# Altium schematic symbol library WCAP-FTDB.SchLib: 24 symbols
Pins are listed as number, name and electrical type; pins without a type are passive.

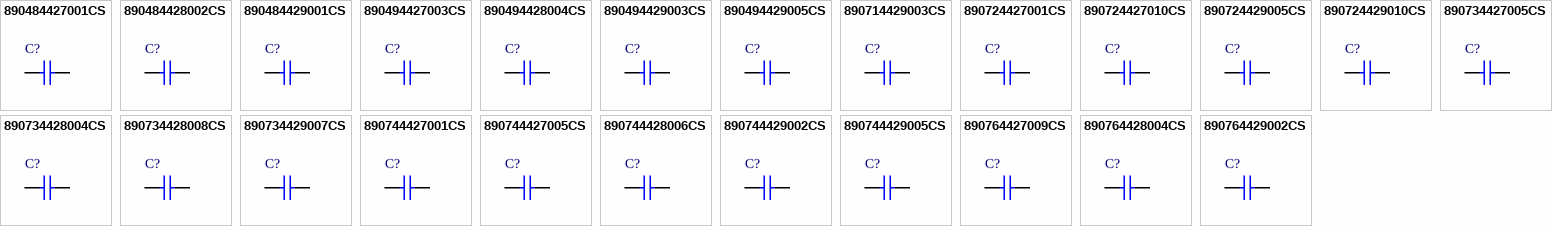
[diagram p0: symbols 890484427001CS to 890764429002CS]

## 890484427001CS
designator C?, comment 5µF  (value not drawn)
WCAP-FTDB DC-Link Capacitor, THT, 32mm x 11mm x 20mm, 5µF, 500V; Manufacturer Part Number: 890484427001CS; Manufacturer: Wurth Elektronik; Insulation Resistance: 2GΩ; Rated Voltage: 500V (DC); Dissipation Factor @1kHz: 0.1%; Rate of Voltage Rise: 65V/µs; Ripple Current: 5A; Category: Film Capacitors; Match Code: WCAP-FTDB; ComponentLink1Description: Website Link; ComponentLink1URL: https://www.we-online.com/redexpert/article/890484427001CS?ad; ComponentLink2Description: Datasheet Link; ComponentLink2URL: https://www.we-online.com/redexpert/spec/890484427001CS?ad; Mount: Through Hole; Min Operating Temperature: -40°C; Max Operating Temperature: 105°C; Packaging: Carton; Length: 32mm; Width: 11mm; Height: 20mm; Capacitance: 5µF
footprint WCAP-FTDB_L32W11H20
simulation model 890484427001CS_5uF
pins: 1, 2

## 890484428002CS
designator C?, comment 35µF  (value not drawn)
WCAP-FTDB DC-Link Capacitor, THT, 42mm x 24mm x 36mm, 35µF, 500V; Manufacturer Part Number: 890484428002CS; Manufacturer: Wurth Elektronik; Insulation Resistance: 285.71MΩ; Rated Voltage: 500V (DC); Dissipation Factor @1kHz: 0.15%; Rate of Voltage Rise: 30V/µs; Ripple Current: 13.5A; Category: Film Capacitors; Match Code: WCAP-FTDB; ComponentLink1Description: Website Link; ComponentLink1URL: https://www.we-online.com/redexpert/article/890484428002CS?ad; ComponentLink2Description: Datasheet Link; ComponentLink2URL: https://www.we-online.com/redexpert/spec/890484428002CS?ad; Mount: Through Hole; Min Operating Temperature: -40°C; Max Operating Temperature: 105°C; Packaging: Carton; Length: 42mm; Width: 24mm; Height: 36mm; Capacitance: 35µF
footprint WCAP-FTDB_L42W24H36
simulation model 890484428002CS_35uF
pins: 1, 2

## 890484429001CS
designator C?, comment 75µF  (value not drawn)
WCAP-FTDB DC-Link Capacitor, THT, 57mm x 29.5mm x 43.5mm, 75µF, 500V; Manufacturer Part Number: 890484429001CS; Manufacturer: Wurth Elektronik; Insulation Resistance: 133.33MΩ; Rated Voltage: 500V (DC); Dissipation Factor @1kHz: 0.35%; Rate of Voltage Rise: 15V/µs; Ripple Current: 16A; Category: Film Capacitors; Match Code: WCAP-FTDB; ComponentLink1Description: Website Link; ComponentLink1URL: https://www.we-online.com/redexpert/article/890484429001CS?ad; ComponentLink2Description: Datasheet Link; ComponentLink2URL: https://www.we-online.com/redexpert/spec/890484429001CS?ad; Mount: Through Hole; Min Operating Temperature: -40°C; Max Operating Temperature: 105°C; Packaging: Carton; Length: 57mm; Width: 29.5mm; Height: 43.5mm; Capacitance: 75µF
footprint WCAP-FTDB_L57W29.5H43.5
simulation model 890484429001CS_75uF
pins: 1, 2

## 890494427003CS
designator C?, comment 3µF  (value not drawn)
WCAP-FTDB DC-Link Capacitor, THT, 32mm x 15mm x 24.5mm, 3µF, 1000V; Manufacturer Part Number: 890494427003CS; Manufacturer: Wurth Elektronik; Insulation Resistance: 3.33GΩ; Rated Voltage: 1000V (DC); Dissipation Factor @1kHz: 0.08%; Rate of Voltage Rise: 75V/µs; Ripple Current: 5.2A; Category: Film Capacitors; Match Code: WCAP-FTDB; ComponentLink1Description: Website Link; ComponentLink1URL: https://www.we-online.com/redexpert/article/890494427003CS?ad; ComponentLink2Description: Datasheet Link; ComponentLink2URL: https://www.we-online.com/redexpert/spec/890494427003CS?ad; Mount: Through Hole; Min Operating Temperature: -40°C; Max Operating Temperature: 105°C; Packaging: Carton; Length: 32mm; Width: 15mm; Height: 24.5mm; Capacitance: 3µF
footprint WCAP-FTDB_L32W15H24.5
simulation model 890494427003CS_3uF
pins: 1, 2

## 890494428004CS
designator C?, comment 25µF  (value not drawn)
WCAP-FTDB DC-Link Capacitor, THT, 42mm x 35mm x 50mm, 25µF, 1000V; Manufacturer Part Number: 890494428004CS; Manufacturer: Wurth Elektronik; Insulation Resistance: 400MΩ; Rated Voltage: 1000V (DC); Dissipation Factor @1kHz: 0.15%; Rate of Voltage Rise: 37V/µs; Ripple Current: 19.2A; Category: Film Capacitors; Match Code: WCAP-FTDB; ComponentLink1Description: Website Link; ComponentLink1URL: https://www.we-online.com/redexpert/article/890494428004CS?ad; ComponentLink2Description: Datasheet Link; ComponentLink2URL: https://www.we-online.com/redexpert/spec/890494428004CS?ad; Mount: Through Hole; Min Operating Temperature: -40°C; Max Operating Temperature: 105°C; Packaging: Carton; Length: 42mm; Width: 35mm; Height: 50mm; Capacitance: 25µF
footprint WCAP-FTDB_L42W35H50
simulation model 890494428004CS_25uF
pins: 1, 2

## 890494429003CS
designator C?, comment 40µF  (value not drawn)
WCAP-FTDB DC-Link Capacitor, THT, 57mm x 35mm x 50mm, 40µF, 1000V; Manufacturer Part Number: 890494429003CS; Manufacturer: Wurth Elektronik; Insulation Resistance: 250MΩ; Rated Voltage: 1000V (DC); Dissipation Factor @1kHz: 0.28%; Rate of Voltage Rise: 17V/µs; Ripple Current: 15.4A; Category: Film Capacitors; Match Code: WCAP-FTDB; ComponentLink1Description: Website Link; ComponentLink1URL: https://www.we-online.com/redexpert/article/890494429003CS?ad; ComponentLink2Description: Datasheet Link; ComponentLink2URL: https://www.we-online.com/redexpert/spec/890494429003CS?ad; Mount: Through Hole; Min Operating Temperature: -40°C; Max Operating Temperature: 105°C; Packaging: Carton; Length: 57mm; Width: 35mm; Height: 50mm; Capacitance: 40µF
footprint WCAP-FTDB_L57W35H50
simulation model 890494429003CS_40uF
pins: 1, 2

## 890494429005CS
designator C?, comment 50µF  (value not drawn)
WCAP-FTDB DC-Link Capacitor, THT, 57mm x 45mm x 55mm, 50µF, 1000V; Manufacturer Part Number: 890494429005CS; Manufacturer: Wurth Elektronik; Insulation Resistance: 200MΩ; Rated Voltage: 1000V (DC); Dissipation Factor @1kHz: 0.28%; Rate of Voltage Rise: 17V/µs; Ripple Current: 19.2A; Category: Film Capacitors; Match Code: WCAP-FTDB; ComponentLink1Description: Website Link; ComponentLink1URL: https://www.we-online.com/redexpert/article/890494429005CS?ad; ComponentLink2Description: Datasheet Link; ComponentLink2URL: https://www.we-online.com/redexpert/spec/890494429005CS?ad; Mount: Through Hole; Min Operating Temperature: -40°C; Max Operating Temperature: 105°C; Packaging: Carton; Length: 57mm; Width: 45mm; Height: 55mm; Capacitance: 50µF
footprint WCAP-FTDB_L57W45H55
simulation model 890494429005CS_50uF
pins: 1, 2

## 890714429003CS
designator C?, comment 50µF  (value not drawn)
WCAP-FTDB DC-Link Capacitor, THT, 57mm x 35mm x 50mm, 50µF, 800V; Manufacturer Part Number: 890714429003CS; Manufacturer: Wurth Elektronik; Insulation Resistance: 200MΩ; Rated Voltage: 800V (DC); Dissipation Factor @1kHz: 0.33%; Rate of Voltage Rise: 15V/µs; Ripple Current: 16.8A; Category: Film Capacitors; Match Code: WCAP-FTDB; ComponentLink1Description: Website Link; ComponentLink1URL: https://www.we-online.com/redexpert/article/890714429003CS?ad; ComponentLink2Description: Datasheet Link; ComponentLink2URL: https://www.we-online.com/redexpert/spec/890714429003CS?ad; Mount: Through Hole; Min Operating Temperature: -40°C; Max Operating Temperature: 105°C; Packaging: Carton; Length: 57mm; Width: 35mm; Height: 50mm; Capacitance: 50µF
footprint WCAP-FTDB_L57W35H50
simulation model 890714429003CS_50uF
pins: 1, 2

## 890724427001CS
designator C?, comment 1µF  (value not drawn)
WCAP-FTDB DC-Link Capacitor, THT, 32mm x 9mm x 18mm, 1µF, 900V; Manufacturer Part Number: 890724427001CS; Manufacturer: Wurth Elektronik; Insulation Resistance: 10GΩ; Rated Voltage: 900V (DC); Dissipation Factor @1kHz: 0.09%; Rate of Voltage Rise: 70V/µs; Ripple Current: 1.5A; Category: Film Capacitors; Match Code: WCAP-FTDB; ComponentLink1Description: Website Link; ComponentLink1URL: https://www.we-online.com/redexpert/article/890724427001CS?ad; ComponentLink2Description: Datasheet Link; ComponentLink2URL: https://www.we-online.com/redexpert/spec/890724427001CS?ad; Mount: Through Hole; Min Operating Temperature: -40°C; Max Operating Temperature: 105°C; Packaging: Carton; Length: 32mm; Width: 9mm; Height: 18mm; Capacitance: 1µF
footprint WCAP-FTDB_L32W9H18
simulation model 890724427001CS_1uF
pins: 1, 2

## 890724427010CS
designator C?, comment 10µF  (value not drawn)
WCAP-FTDB DC-Link Capacitor, THT, 32mm x 22mm x 37mm, 10µF, 900V; Manufacturer Part Number: 890724427010CS; Manufacturer: Wurth Elektronik; Insulation Resistance: 1GΩ; Rated Voltage: 900V (DC); Dissipation Factor @1kHz: 0.09%; Rate of Voltage Rise: 70V/µs; Ripple Current: 12.2A; Category: Film Capacitors; Match Code: WCAP-FTDB; ComponentLink1Description: Website Link; ComponentLink1URL: https://www.we-online.com/redexpert/article/890724427010CS?ad; ComponentLink2Description: Datasheet Link; ComponentLink2URL: https://www.we-online.com/redexpert/spec/890724427010CS?ad; Mount: Through Hole; Min Operating Temperature: -40°C; Max Operating Temperature: 105°C; Packaging: Carton; Length: 32mm; Width: 22mm; Height: 37mm; Capacitance: 10µF
footprint WCAP-FTDB_L32W22H37
simulation model 890724427010CS_10uF
pins: 1, 2

## 890724429005CS
designator C?, comment 50µF  (value not drawn)
WCAP-FTDB DC-Link Capacitor, THT, 57mm x 35mm x 50mm, 50µF, 900V; Manufacturer Part Number: 890724429005CS; Manufacturer: Wurth Elektronik; Insulation Resistance: 200MΩ; Rated Voltage: 900V (DC); Dissipation Factor @1kHz: 0.31%; Rate of Voltage Rise: 15V/µs; Ripple Current: 17.9A; Category: Film Capacitors; Match Code: WCAP-FTDB; ComponentLink1Description: Website Link; ComponentLink1URL: https://www.we-online.com/redexpert/article/890724429005CS?ad; ComponentLink2Description: Datasheet Link; ComponentLink2URL: https://www.we-online.com/redexpert/spec/890724429005CS?ad; Mount: Through Hole; Min Operating Temperature: -40°C; Max Operating Temperature: 105°C; Packaging: Carton; Length: 57mm; Width: 35mm; Height: 50mm; Capacitance: 50µF
footprint WCAP-FTDB_L57W35H50
simulation model 890724429005CS_50uF
pins: 1, 2

## 890724429010CS
designator C?, comment 75µF  (value not drawn)
WCAP-FTDB DC-Link Capacitor, THT, 57mm x 45mm x 65mm, 75µF, 900V; Manufacturer Part Number: 890724429010CS; Manufacturer: Wurth Elektronik; Insulation Resistance: 133.33MΩ; Rated Voltage: 900V (DC); Dissipation Factor @1kHz: 0.31%; Rate of Voltage Rise: 15V/µs; Ripple Current: 25.7A; Category: Film Capacitors; Match Code: WCAP-FTDB; ComponentLink1Description: Website Link; ComponentLink1URL: https://www.we-online.com/redexpert/article/890724429010CS?ad; ComponentLink2Description: Datasheet Link; ComponentLink2URL: https://www.we-online.com/redexpert/spec/890724429010CS?ad; Mount: Through Hole; Min Operating Temperature: -40°C; Max Operating Temperature: 105°C; Packaging: Carton; Length: 57mm; Width: 45mm; Height: 65mm; Capacitance: 75µF
footprint WCAP-FTDB_L57W45H65
simulation model 890724429010CS_75uF
pins: 1, 2

## 890734427005CS
designator C?, comment 3µF  (value not drawn)
WCAP-FTDB DC-Link Capacitor, THT, 32mm x 16mm x 30mm, 3µF, 1100V; Manufacturer Part Number: 890734427005CS; Manufacturer: Wurth Elektronik; Insulation Resistance: 3.33GΩ; Rated Voltage: 1100V (DC); Dissipation Factor @1kHz: 0.08%; Rate of Voltage Rise: 80V/µs; Ripple Current: 6.5A; Category: Film Capacitors; Match Code: WCAP-FTDB; ComponentLink1Description: Website Link; ComponentLink1URL: https://www.we-online.com/redexpert/article/890734427005CS?ad; ComponentLink2Description: Datasheet Link; ComponentLink2URL: https://www.we-online.com/redexpert/spec/890734427005CS?ad; Mount: Through Hole; Min Operating Temperature: -40°C; Max Operating Temperature: 105°C; Packaging: Carton; Length: 32mm; Width: 16mm; Height: 30mm; Capacitance: 3µF
footprint WCAP-FTDB_L32W16H30
simulation model 890734427005CS_3uF
pins: 1, 2

## 890734428004CS
designator C?, comment 15µF  (value not drawn)
WCAP-FTDB DC-Link Capacitor, THT, 42mm x 30mm x 45mm, 15µF, 1100V; Manufacturer Part Number: 890734428004CS; Manufacturer: Wurth Elektronik; Insulation Resistance: 666.66MΩ; Rated Voltage: 1100V (DC); Dissipation Factor @1kHz: 0.15%; Rate of Voltage Rise: 40V/µs; Ripple Current: 12.4A; Category: Film Capacitors; Match Code: WCAP-FTDB; ComponentLink1Description: Website Link; ComponentLink1URL: https://www.we-online.com/redexpert/article/890734428004CS?ad; ComponentLink2Description: Datasheet Link; ComponentLink2URL: https://www.we-online.com/redexpert/spec/890734428004CS?ad; Mount: Through Hole; Min Operating Temperature: -40°C; Max Operating Temperature: 105°C; Packaging: Carton; Length: 42mm; Width: 30mm; Height: 45mm; Capacitance: 15µF
footprint WCAP-FTDB_L42W30H45
simulation model 890734428004CS_15uF
pins: 1, 2

## 890734428008CS
designator C?, comment 30µF  (value not drawn)
WCAP-FTDB DC-Link Capacitor, THT, 42mm x 45mm x 60mm, 30µF, 1100V; Manufacturer Part Number: 890734428008CS; Manufacturer: Wurth Elektronik; Insulation Resistance: 333.33MΩ; Rated Voltage: 1100V (DC); Dissipation Factor @1kHz: 0.15%; Rate of Voltage Rise: 40V/µs; Ripple Current: 24.8A; Category: Film Capacitors; Match Code: WCAP-FTDB; ComponentLink1Description: Website Link; ComponentLink1URL: https://www.we-online.com/redexpert/article/890734428008CS?ad; ComponentLink2Description: Datasheet Link; ComponentLink2URL: https://www.we-online.com/redexpert/spec/890734428008CS?ad; Mount: Through Hole; Min Operating Temperature: -40°C; Max Operating Temperature: 105°C; Packaging: Carton; Length: 42mm; Width: 45mm; Height: 60mm; Capacitance: 30µF
footprint WCAP-FTDB_L42W45H60
simulation model 890734428008CS_30uF
pins: 1, 2

## 890734429007CS
designator C?, comment 50µF  (value not drawn)
WCAP-FTDB DC-Link Capacitor, THT, 57mm x 45mm x 65mm, 50µF, 1100V; Manufacturer Part Number: 890734429007CS; Manufacturer: Wurth Elektronik; Insulation Resistance: 200MΩ; Rated Voltage: 1100V (DC); Dissipation Factor @1kHz: 0.27%; Rate of Voltage Rise: 20V/µs; Ripple Current: 19.3A; Category: Film Capacitors; Match Code: WCAP-FTDB; ComponentLink1Description: Website Link; ComponentLink1URL: https://www.we-online.com/redexpert/article/890734429007CS?ad; ComponentLink2Description: Datasheet Link; ComponentLink2URL: https://www.we-online.com/redexpert/spec/890734429007CS?ad; Mount: Through Hole; Min Operating Temperature: -40°C; Max Operating Temperature: 105°C; Packaging: Carton; Length: 57mm; Width: 45mm; Height: 65mm; Capacitance: 50µF
footprint WCAP-FTDB_L57W45H65
simulation model 890734429007CS_50uF
pins: 1, 2

## 890744427001CS
designator C?, comment 1µF  (value not drawn)
WCAP-FTDB DC-Link Capacitor, THT, 32mm x 11mm x 20mm, 1µF, 1200V; Manufacturer Part Number: 890744427001CS; Manufacturer: Wurth Elektronik; Insulation Resistance: 10GΩ; Rated Voltage: 1200V (DC); Dissipation Factor @1kHz: 0.07%; Rate of Voltage Rise: 90V/µs; Ripple Current: 3.5A; Category: Film Capacitors; Match Code: WCAP-FTDB; ComponentLink1Description: Website Link; ComponentLink1URL: https://www.we-online.com/redexpert/article/890744427001CS?ad; ComponentLink2Description: Datasheet Link; ComponentLink2URL: https://www.we-online.com/redexpert/spec/890744427001CS?ad; Mount: Through Hole; Min Operating Temperature: -40°C; Max Operating Temperature: 105°C; Packaging: Carton; Length: 32mm; Width: 11mm; Height: 20mm; Capacitance: 1µF
footprint WCAP-FTDB_L32W11H20
simulation model 890744427001CS_1uF
pins: 1, 2

## 890744427005CS
designator C?, comment 5µF  (value not drawn)
WCAP-FTDB DC-Link Capacitor, THT, 32mm x 22mm x 37mm, 5µF, 1200V; Manufacturer Part Number: 890744427005CS; Manufacturer: Wurth Elektronik; Insulation Resistance: 2GΩ; Rated Voltage: 1200V (DC); Dissipation Factor @1kHz: 0.07%; Rate of Voltage Rise: 90V/µs; Ripple Current: 10.4A; Category: Film Capacitors; Match Code: WCAP-FTDB; ComponentLink1Description: Website Link; ComponentLink1URL: https://www.we-online.com/redexpert/article/890744427005CS?ad; ComponentLink2Description: Datasheet Link; ComponentLink2URL: https://www.we-online.com/redexpert/spec/890744427005CS?ad; Mount: Through Hole; Min Operating Temperature: -40°C; Max Operating Temperature: 105°C; Packaging: Carton; Length: 32mm; Width: 22mm; Height: 37mm; Capacitance: 5µF
footprint WCAP-FTDB_L32W22H37
simulation model 890744427005CS_5uF
pins: 1, 2

## 890744428006CS
designator C?, comment 25µF  (value not drawn)
WCAP-FTDB DC-Link Capacitor, THT, 42mm x 45mm x 60mm, 25µF, 1200V; Manufacturer Part Number: 890744428006CS; Manufacturer: Wurth Elektronik; Insulation Resistance: 400MΩ; Rated Voltage: 1200V (DC); Dissipation Factor @1kHz: 0.13%; Rate of Voltage Rise: 45V/µs; Ripple Current: 25.1A; Category: Film Capacitors; Match Code: WCAP-FTDB; ComponentLink1Description: Website Link; ComponentLink1URL: https://www.we-online.com/redexpert/article/890744428006CS?ad; ComponentLink2Description: Datasheet Link; ComponentLink2URL: https://www.we-online.com/redexpert/spec/890744428006CS?ad; Mount: Through Hole; Min Operating Temperature: -40°C; Max Operating Temperature: 105°C; Packaging: Carton; Length: 42mm; Width: 45mm; Height: 60mm; Capacitance: 25µF
footprint WCAP-FTDB_L42W45H60
simulation model 890744428006CS_25uF
pins: 1, 2

## 890744429002CS
designator C?, comment 25µF  (value not drawn)
WCAP-FTDB DC-Link Capacitor, THT, 57mm x 35mm x 50mm, 25µF, 1200V; Manufacturer Part Number: 890744429002CS; Manufacturer: Wurth Elektronik; Insulation Resistance: 400MΩ; Rated Voltage: 1200V (DC); Dissipation Factor @1kHz: 0.24%; Rate of Voltage Rise: 23V/µs; Ripple Current: 12.6A; Category: Film Capacitors; Match Code: WCAP-FTDB; ComponentLink1Description: Website Link; ComponentLink1URL: https://www.we-online.com/redexpert/article/890744429002CS?ad; ComponentLink2Description: Datasheet Link; ComponentLink2URL: https://www.we-online.com/redexpert/spec/890744429002CS?ad; Mount: Through Hole; Min Operating Temperature: -40°C; Max Operating Temperature: 105°C; Packaging: Carton; Length: 57mm; Width: 35mm; Height: 50mm; Capacitance: 25µF
footprint WCAP-FTDB_L57W35H50
simulation model 890744429002CS_25uF
pins: 1, 2

## 890744429005CS
designator C?, comment 40µF  (value not drawn)
WCAP-FTDB DC-Link Capacitor, THT, 57mm x 45mm x 65mm, 40µF, 1200V; Manufacturer Part Number: 890744429005CS; Manufacturer: Wurth Elektronik; Insulation Resistance: 250MΩ; Rated Voltage: 1200V (DC); Dissipation Factor @1kHz: 0.24%; Rate of Voltage Rise: 23V/µs; Ripple Current: 20.1A; Category: Film Capacitors; Match Code: WCAP-FTDB; ComponentLink1Description: Website Link; ComponentLink1URL: https://www.we-online.com/redexpert/article/890744429005CS?ad; ComponentLink2Description: Datasheet Link; ComponentLink2URL: https://www.we-online.com/redexpert/spec/890744429005CS?ad; Mount: Through Hole; Min Operating Temperature: -40°C; Max Operating Temperature: 105°C; Packaging: Carton; Length: 57mm; Width: 45mm; Height: 65mm; Capacitance: 40µF
footprint WCAP-FTDB_L57W45H65
simulation model 890744429005CS_40uF
pins: 1, 2

## 890764427009CS
designator C?, comment 10µF  (value not drawn)
WCAP-FTDB DC-Link Capacitor, THT, 32mm x 16mm x 30mm, 10µF, 600V; Manufacturer Part Number: 890764427009CS; Manufacturer: Wurth Elektronik; Insulation Resistance: 1GΩ; Rated Voltage: 600V (DC); Dissipation Factor @1kHz: 0.11%; Rate of Voltage Rise: 65V/µs; Ripple Current: 11A; Category: Film Capacitors; Match Code: WCAP-FTDB; ComponentLink1Description: Website Link; ComponentLink1URL: https://www.we-online.com/redexpert/article/890764427009CS?ad; ComponentLink2Description: Datasheet Link; ComponentLink2URL: https://www.we-online.com/redexpert/spec/890764427009CS?ad; Mount: Through Hole; Min Operating Temperature: -40°C; Max Operating Temperature: 105°C; Packaging: Carton; Length: 32mm; Width: 16mm; Height: 30mm; Capacitance: 10µF
footprint WCAP-FTDB_L32W16H30
simulation model 890764427009CS_10uF
pins: 1, 2

## 890764428004CS
designator C?, comment 40µF  (value not drawn)
WCAP-FTDB DC-Link Capacitor, THT, 42mm x 30mm x 45mm, 40µF, 600V; Manufacturer Part Number: 890764428004CS; Manufacturer: Wurth Elektronik; Insulation Resistance: 250MΩ; Rated Voltage: 600V (DC); Dissipation Factor @1kHz: 0.2%; Rate of Voltage Rise: 30V/µs; Ripple Current: 23A; Category: Film Capacitors; Match Code: WCAP-FTDB; ComponentLink1Description: Website Link; ComponentLink1URL: https://www.we-online.com/redexpert/article/890764428004CS?ad; ComponentLink2Description: Datasheet Link; ComponentLink2URL: https://www.we-online.com/redexpert/spec/890764428004CS?ad; Mount: Through Hole; Min Operating Temperature: -40°C; Max Operating Temperature: 105°C; Packaging: Carton; Length: 42mm; Width: 30mm; Height: 45mm; Capacitance: 40µF
footprint WCAP-FTDB_L42W30H45
simulation model 890764428004CS_40uF
pins: 1, 2

## 890764429002CS
designator C?, comment 60µF  (value not drawn)
WCAP-FTDB DC-Link Capacitor, THT, 57mm x 29.5mm x 43.5mm, 60µF, 600V; Manufacturer Part Number: 890764429002CS; Manufacturer: Wurth Elektronik; Insulation Resistance: 166.66MΩ; Rated Voltage: 600V (DC); Dissipation Factor @1kHz: 0.36%; Rate of Voltage Rise: 15V/µs; Ripple Current: 18.5A; Category: Film Capacitors; Match Code: WCAP-FTDB; ComponentLink1Description: Website Link; ComponentLink1URL: https://www.we-online.com/redexpert/article/890764429002CS?ad; ComponentLink2Description: Datasheet Link; ComponentLink2URL: https://www.we-online.com/redexpert/spec/890764429002CS?ad; Mount: Through Hole; Min Operating Temperature: -40°C; Max Operating Temperature: 105°C; Packaging: Carton; Length: 57mm; Width: 29.5mm; Height: 43.5mm; Capacitance: 60µF
footprint WCAP-FTDB_L57W29.5H43.5
simulation model 890764429002CS_60uF
pins: 1, 2